# Altium schematic symbol library MOUNTING_HOLE_3MM.SchLib: 1 symbol
Pins are listed as number, name and electrical type; pins without a type are passive.

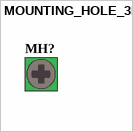
[diagram p0: symbol MOUNTING_HOLE_3MM]

## MOUNTING_HOLE_3MM
designator MH?  (no BOM)
pins: 1 hidden